# Altium footprint library Switch.PcbLib: 2 footprints
Each footprint in its own frame and in the unit in brackets; x right, y up, seen from the top. Pads: shape width x height; smd on the part's side, far side on the other; paste and mask are expansions set on the pad; w line width, h text height; cw(c..) or ccw(c..) is an arc to the next point about the centre after c.
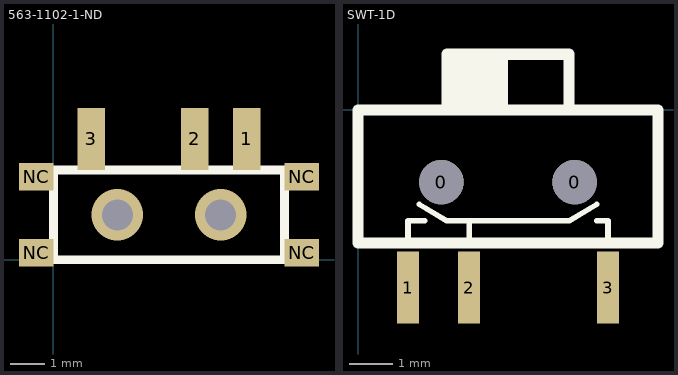
[diagram p0: the footprints below, top view; thin cyan lines are the x and y axes]

## 563-1102-1-ND [mm]
pads (7):
  rect 0.8x1.8 smd: 1(5.6,3.5) 2(4.1,3.5) 3(1.1,3.5)
  rect 1x0.8 smd: NC(-0.5,0.2) NC(-0.5,2.4) NC(7.2,0.2) NC(7.2,2.4)
via 4.85,1.3 diameter 1.5 hole 0.9
via 1.85,1.3 diameter 1.5 hole 0.9
Top Overlay:
  lines w0.254: 0,0 0,2.6 6.7,2.6 6.7,0 0,0
3D body: height 1.1, standoff 0.2, extent 3.556,-1.651 5.08,-0.127

## SWT-1D [mil]
pads (5):
  round 40 hole 40: 0(75,-65) 0(195,-65)
  rect 20x65 smd: 1(45,-160) 2(100,-160) 3(225,-160)
Top Overlay:
  lines w5: 45,-120 45,-100 60,-100 ; 55,-85 80,-100 100,-100 ; 100,-120 100,-100 ; 215,-100 225,-100 225,-120 ; 215,-85 190,-100 100,-100
  lines w10: 80,0 80,50 130,50 ; 80,35 130,35 130,30 80,30 80,25 130,25 130,20 80,20 80,10 130,10 ; 80,42 130,42 130,50 ; 83,14 130,14 ; 130,0 130,50 ; 190,0 190,50 130,50 ; 0,-120 0,0 270,0 270,-120 0,-120